# EAGLE library part AP63203WU (library shrew-core)
Check availability <https://pricing.snapeda.com/parts/LMR16006XDDCR/Texas%20Instruments/view-part?ref=eda>
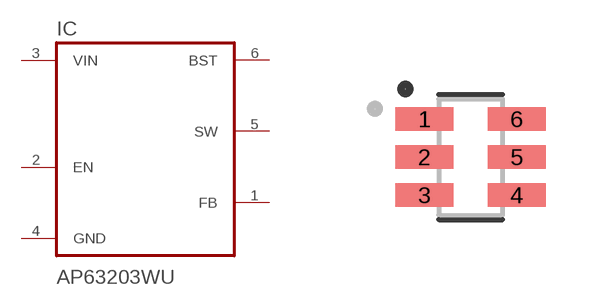
[diagram p6: symbol with the pads of SOT95P280X110-6N; footprint SOT95P280X110-6N]

Designator prefix IC

## AP63203WU (PACKAGE: SOT-23-THN-6 Texas Instruments)  [SOT95P280X110-6N]
1  FB
2  EN
3  VIN  in
4  GND  pwr
5  SW
6  BST

## Footprint SOT95P280X110-6N (pad centres in mm)
smd 1.45 x 0.59: 1 -1.155,0.95; 2 -1.155,0; 3 -1.155,-0.95; 4 1.155,-0.95; 5 1.155,0; 6 1.155,0.95